# EAGLE library part HEADER_16X1 (library Nordic_misc)
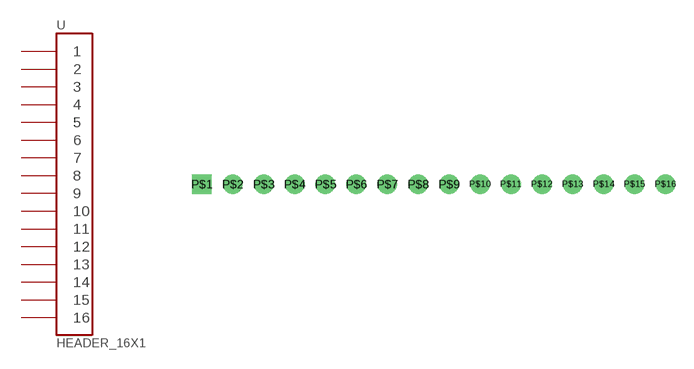
[diagram p2: symbol with the pads of HDRV16W64P254_1X16_4064X254X900B_NO_SILK; footprint HDRV16W64P254_1X16_4064X254X900B_NO_SILK]

Designator prefix -

## HEADER_16X1  [HDRV16W64P254_1X16_4064X254X900B_NO_SILK]
P$1  1
P$2  2
P$3  3
P$4  4
P$5  5
P$6  6
P$7  7
P$8  8
P$9  9
P$10  10
P$11  11
P$12  12
P$13  13
P$14  14
P$15  15
P$16  16

## Footprint HDRV16W64P254_1X16_4064X254X900B_NO_SILK (pad centres in mm)
drill 0.9 pad 1.6 square: P$1 -19.05,0
drill 0.9 pad 1.6: P$2 -16.51,0; P$3 -13.97,0; P$4 -11.43,0; P$5 -8.89,0; P$6 -6.35,0; P$7 -3.81,0; P$8 -1.27,0; P$9 1.27,0; P$10 3.81,0; P$11 6.35,0; P$12 8.89,0; P$13 11.43,0; P$14 13.97,0; P$15 16.51,0; P$16 19.05,0